# EAGLE library part APXW003A0X3-SRZ (library FSAE Electric)
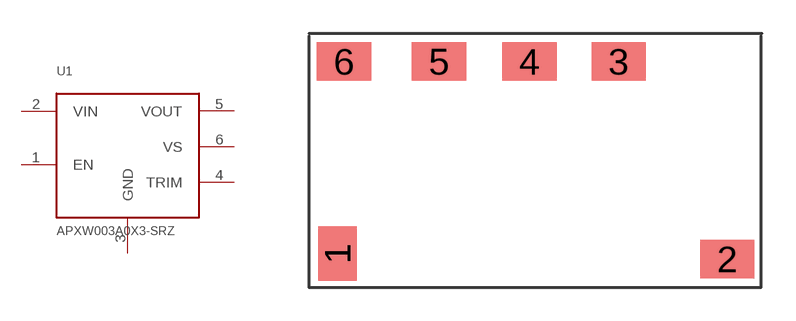
[diagram p91: symbol with the pads of APXW003A0X3-SRZ; footprint APXW003A0X3-SRZ]

Designator prefix U1

## APXW003A0X3-SRZ (PARTNO: APXW003A0X3-SRZ)  [APXW003A0X3-SRZ]
1  EN
2  VIN
3  GND
4  TRIM
5  VOUT
6  VS

## Footprint APXW003A0X3-SRZ (pad centres in mm)
smd 1.73 x 2.44: 1 -8.88,-3.56
smd 2.44 x 1.73: 2 8.636,-3.81; 3 3.76,5.08; 4 -0.254,5.08; 5 -4.318,5.08; 6 -8.586,5.08